# EAGLE library part VNH2SP30 (library Fugu_LSI)
Automotive fully integrated H-bridge motor driver
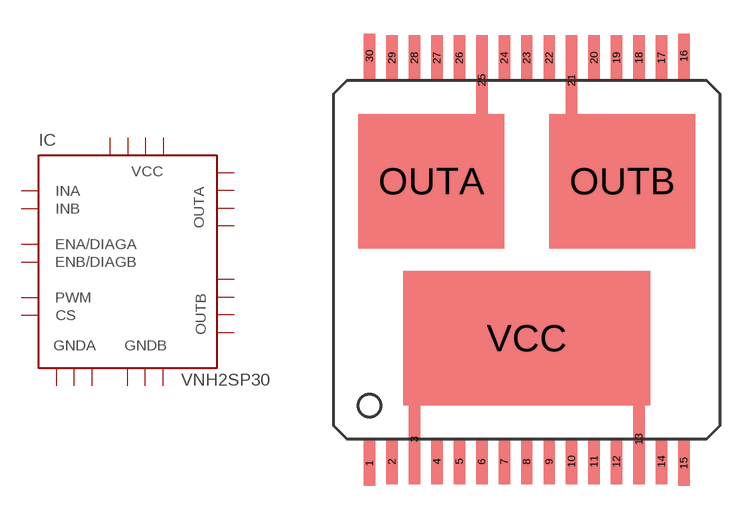
[diagram p18: symbol with the pads of MULTIPOWERSO-30; footprint MULTIPOWERSO-30]

Designator prefix IC

## VNH2SP30  [MULTIPOWERSO-30]
1  OUTA  pas
3  VCC  pwr
5  INA  in
6  ENA/DIAGA  oc
8  PWM  in
9  CS
10  ENB/DIAGB  oc
11  INB  in
13  VCC  pwr
15  OUTB  pas
16  OUTB  pas
18  GNDB  pwr
19  GNDB  pwr
20  GNDB  pwr
21  OUTB  pas
23  VCC  pwr
25  OUTA  pas
26  GNDA  pwr
27  GNDA  pwr
28  GNDA  pwr
30  OUTA  pas
OUTA  OUTA  out
OUTB  OUTB  out
VCC  VCC  pwr

## Footprint MULTIPOWERSO-30 (pad centres in mm)
smd 0.508 x 2: 1 -7,-9.08; 2 -6,-9; 4 -4,-9; 5 -3,-9; 6 -2,-9; 7 -1,-9; 8 0,-9; 9 1,-9; 10 2,-9; 11 3,-9; 12 4,-9; 14 6,-9; 15 7,-9.08; 16 7,9.08; 17 6,9; 18 5,9; 19 4,9; 20 3,9; 22 1,9; 23 0,9; 24 -1,9; 26 -3,9; 27 -4,9; 28 -5,9; 29 -6,9; 30 -7,9.08
smd 0.508 x 4: 3 -5,-8; 13 5,-8; 21 2,8; 25 -2,8
smd 6.5 x 6: OUTA -4.25,3.5; OUTB 4.25,3.5
smd 11 x 6: VCC 0,-3.5